# Altium footprint library PcbLib.PcbLib: 5 footprints
Each footprint in its own frame and in the unit in brackets; x right, y up, seen from the top. Pads: shape width x height; smd on the part's side, far side on the other; paste and mask are expansions set on the pad; w line width, h text height; cw(c..) or ccw(c..) is an arc to the next point about the centre after c.
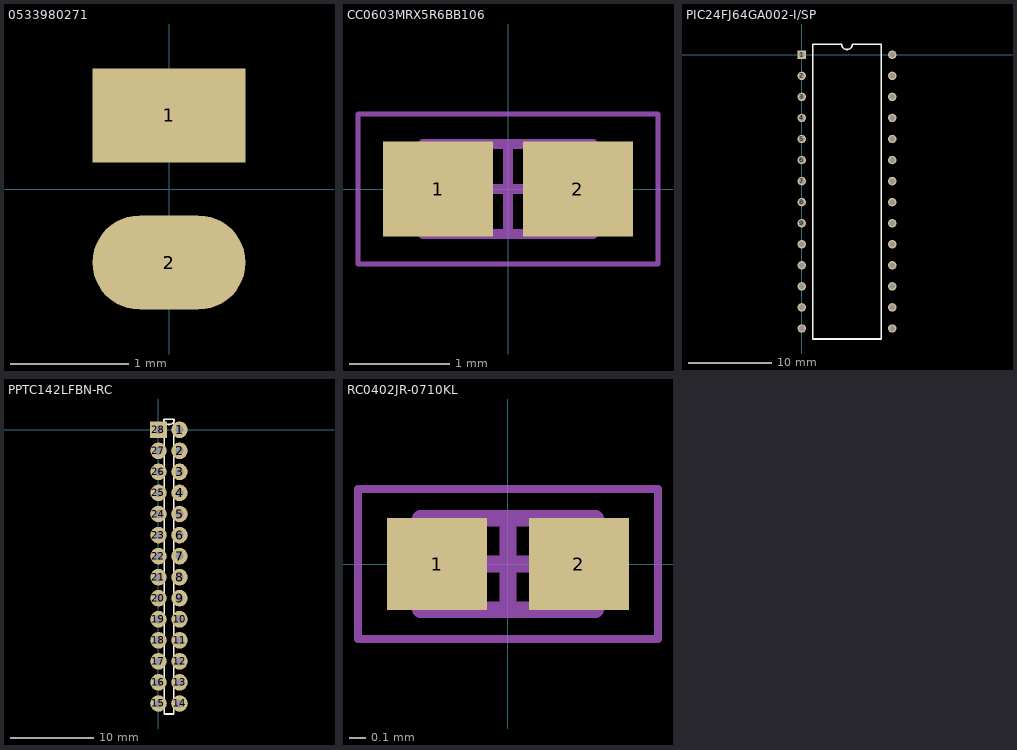
[diagram p0: the footprints below, top view; thin cyan lines are the x and y axes]

## 0533980271 [mm]
pads (2):
  rect 1.3x0.8 all layers, no hole: 1(0,0.625)
  oval 1.3x0.8 all layers, no hole: 2(0,-0.625)
3D body "0533980271.step": height 4.21, standoff 0.01, extent -6.375,-3.2 -1.625,4.45

## CC0603MRX5R6BB106 [mm]
height 0.9
pads (2):
  rect 1.1x0.95 smd: 1(-0.7,0) 2(0.7,0)
Mechanical 13:
  lines w0.1: -0.85,-0.45 -0.85,0.45 0.85,0.45 0.85,-0.45 -0.85,-0.45
Mechanical 15:
  lines w0.05: -1.5,-0.75 -1.5,0.75 1.5,0.75 1.5,-0.75 -1.5,-0.75
  lines w0.1: -0.45,0 0.45,0 ; 0,-0.45 0,0.45
3D body "CC0603MRX5R6BB106.step": height 0.9, standoff 0, extent -0.85,-0.45 0.85,0.45

## PIC24FJ64GA002-I/SP [mil]
pads (28):
  rect 40x40 hole 26.77: 1(0,0)
  round 40 hole 26.77: 2(0,-100) 3(0,-200) 4(0,-300) 5(0,-400) 6(0,-500) 7(0,-600) 8(0,-700) 9(0,-800) 10(0,-900) 11(0,-1000) 12(0,-1100) 13(0,-1200) 14(0,-1300) 15(430,-1300) 16(430,-1200) 17(430,-1100) 18(430,-1000) 19(430,-900) 20(430,-800) 21(430,-700) 22(430,-600) 23(430,-500) 24(430,-400) 25(430,-300) 26(430,-200) 27(430,-100) 28(430,0)
Top Overlay:
  lines w7.87: 52.87,-1350 52.87,50 190,50 ccw(c215,50) 240,50 377.13,50 377.13,-1350 52.87,-1350
3D body "SPDIP28_300MC_MCH.step": height 205.12, standoff -100, extent 56.79,-1348.82 376.28,51.18

## PPTC142LFBN-RC [mm]
pads (28):
  round 2 hole 1: 1(2.54,0) 2(2.54,-2.54) 3(2.54,-5.08) 4(2.54,-7.62) 5(2.54,-10.16) 6(2.54,-12.7) 7(2.54,-15.24) 8(2.54,-17.78) 9(2.54,-20.32) 10(2.54,-22.86) 11(2.54,-25.4) 12(2.54,-27.94) 13(2.54,-30.48) 14(2.54,-33.02) 15(0,-33.02) 16(0,-30.48) 17(0,-27.94) 18(0,-25.4) 19(0,-22.86) 20(0,-20.32) 21(0,-17.78) 22(0,-15.24) 23(0,-12.7) 24(0,-10.16) 25(0,-7.62) 26(0,-5.08) 27(0,-2.54)
  rect 2x2 hole 1: 28(0,0)
Top Overlay:
  lines w0.2: 0.635,1.27 ccw(c1.27,1.27) 1.905,1.27 0.705,1.27 0.705,-34.29 1.835,-34.29 1.835,1.27 0.635,1.27
3D body "PPTC142LFBN-RC.STEP": height 7.89, standoff -4.03, extent -1.24,-34.534 3.84,1.534

## RC0402JR-0710KL [mm]
height 0.4
pads (2):
  rect 0.6x0.55 smd: 1(-0.425,0) 2(0.425,0)
Mechanical 13:
  lines w0.1: -0.525,-0.275 -0.525,0.275 0.525,0.275 0.525,-0.275 -0.525,-0.275
Mechanical 15:
  lines w0.05: -0.9,-0.45 -0.9,0.45 0.9,0.45 0.9,-0.45 -0.9,-0.45
  lines w0.1: -0.275,0 0.275,0 ; 0,-0.275 0,0.275
3D body "RC0402JR-0710KL.step": height 0.4, standoff 0, extent -0.525,-0.275 0.525,0.275